# Altium footprint library MPPT charger.PcbLib: 18 footprints (part 2 of 2)
Each footprint in its own frame and in the unit in brackets; x right, y up, seen from the top. Pads: shape width x height; smd on the part's side, far side on the other; paste and mask are expansions set on the pad; w line width, h text height; cw(c..) or ccw(c..) is an arc to the next point about the centre after c.
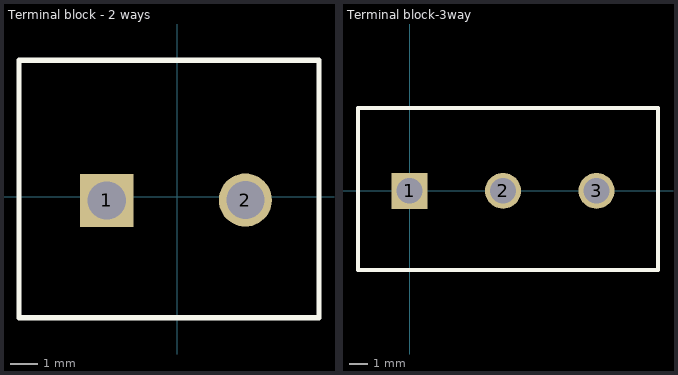
[diagram p1: the footprints below, top view; thin cyan lines are the x and y axes]

## Terminal block - 2 ways [mm]
pads (2):
  rect 1.95x1.95 / inner round 1.95 / far side rect 1.95x1.95 hole 1.4: 1(-2.58,-0.13)
  round 1.95 hole 1.4: 2(2.5,-0.12)
Top Overlay:
  lines w0.2: -5.8,-4.427 -5.8,0.085 -5.8,5 5.2,5 5.2,-4.427 -2.54,-4.427 -5.8,-4.427
Mechanical 29:
  lines w0.1: -5.8,-4.4 -5.8,5 5.2,5 5.2,-4.4 -5.8,-4.4
3D body "1935161.stp": height 12.4, standoff -2.5, extent -5.59,-4.152 4.98,4.848

## Terminal block-3way [mm]
pads (3):
  rect 1.95x1.95 hole 1.4: 1(0,0)
  round 1.95 hole 1.4: 2(5.08,0) 3(10.16,0)
Top Overlay:
  lines w0.2: -2.8,-4.3 13.5,-4.3 13.5,-1.65 13.5,1.65 13.5,4.5 -2.8,4.5 -2.8,-4.3
Mechanical 1:
  lines w0.1: -2.8,-4.3 13.5,-4.3 13.5,4.5 -2.8,4.5 -2.8,-4.3
3D body "2506361_282837-3.stp": height 10.25, standoff -3.25, extent -2.52,-4 13.32,4.2